# EAGLE library part PSOC_4M_68QFN (library atmega328pb_tqfn)
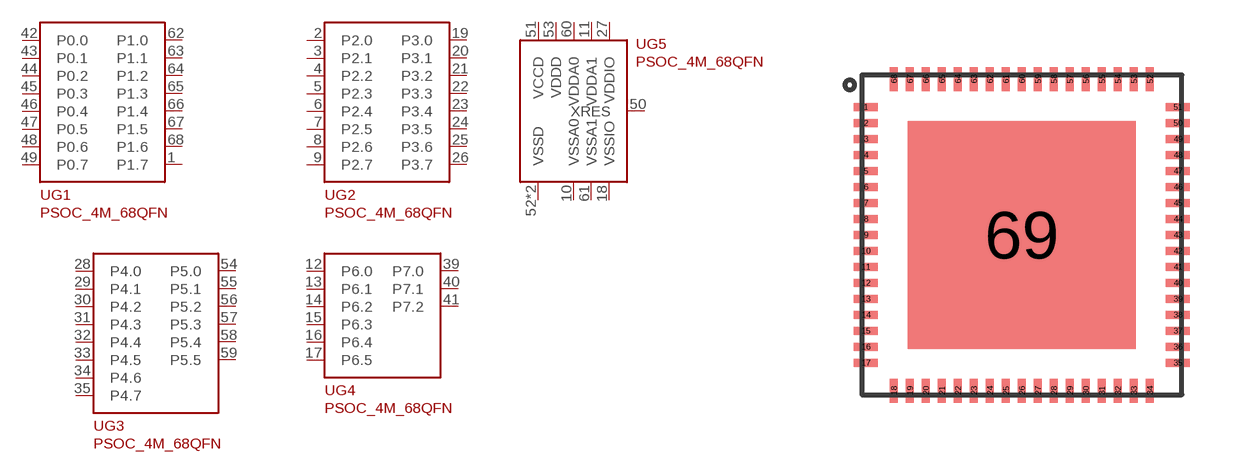
[diagram p140: symbol with the pads of QFN-68; footprint QFN-68]

Designator prefix U; gates G1=CY8C42M-68QFN_P0_P1 G2=CY8C42M-68QFN_P2_P3 G3=CY8C42M-68QFN_P4_P5 G4=CY8C42M-68QFN_P6_P7 G5=CY8C42M-68QFN_POWER

## PSOC_4M_68QFN (PROD_ID: IC-13259; VALUE: CY8C4247LTI)  [QFN-68]
1  G1:P1.7
2  G2:P2.0
3  G2:P2.1
4  G2:P2.2
5  G2:P2.3
6  G2:P2.4
7  G2:P2.5
8  G2:P2.6
9  G2:P2.7
10  G5:VSSA0
11  G5:VDDA1
12  G4:P6.0
13  G4:P6.1
14  G4:P6.2
15  G4:P6.3
16  G4:P6.4
17  G4:P6.5
18  G5:VSSIO
19  G2:P3.0
20  G2:P3.1
21  G2:P3.2
22  G2:P3.3
23  G2:P3.4
24  G2:P3.5
25  G2:P3.6
26  G2:P3.7
27  G5:VDDIO
28  G3:P4.0
29  G3:P4.1
30  G3:P4.2
31  G3:P4.3
32  G3:P4.4
33  G3:P4.5
34  G3:P4.6
35  G3:P4.7
39  G4:P7.0
40  G4:P7.1
41  G4:P7.2
42  G1:P0.0
43  G1:P0.1
44  G1:P0.2
45  G1:P0.3
46  G1:P0.4
47  G1:P0.5
48  G1:P0.6
49  G1:P0.7
50  G5:XRES
51  G5:VCCD
52  G5:VSSD
53  G5:VDDD
54  G3:P5.0
55  G3:P5.1
56  G3:P5.2
57  G3:P5.3
58  G3:P5.4
59  G3:P5.5
60  G5:VDDA0
61  G5:VSSA1
62  G1:P1.0
63  G1:P1.1
64  G1:P1.2
65  G1:P1.3
66  G1:P1.4
67  G1:P1.5
68  G1:P1.6
69  G5:VSSD

## Footprint QFN-68 (pad centres in mm)
smd 0.6 x 0.2: 1 -3.9,3.2; 2 -3.9,2.8; 3 -3.9,2.4; 4 -3.9,2; 5 -3.9,1.6; 6 -3.9,1.2; 7 -3.9,0.8; 8 -3.9,0.4; 9 -3.9,0; 10 -3.9,-0.4; 11 -3.9,-0.8; 12 -3.9,-1.2; 13 -3.9,-1.6; 14 -3.9,-2; 15 -3.9,-2.4; 16 -3.9,-2.8; 17 -3.9,-3.2; 35 3.9,-3.2; 36 3.9,-2.8; 37 3.9,-2.4; 38 3.9,-2; 39 3.9,-1.6; 40 3.9,-1.2; 41 3.9,-0.8; 42 3.9,-0.4; 43 3.9,0; 44 3.9,0.4; 45 3.9,0.8; 46 3.9,1.2; 47 3.9,1.6; 48 3.9,2; 49 3.9,2.4; 50 3.9,2.8; 51 3.9,3.2
smd 0.2 x 0.6: 18 -3.2,-3.9; 19 -2.8,-3.9; 20 -2.4,-3.9; 21 -2,-3.9; 22 -1.6,-3.9; 23 -1.2,-3.9; 24 -0.8,-3.9; 25 -0.4,-3.9; 26 0,-3.9; 27 0.4,-3.9; 28 0.8,-3.9; 29 1.2,-3.9; 30 1.6,-3.9; 31 2,-3.9; 32 2.4,-3.9; 33 2.8,-3.9; 34 3.2,-3.9; 52 3.2,3.9; 53 2.8,3.9; 54 2.4,3.9; 55 2,3.9; 56 1.6,3.9; 57 1.2,3.9; 58 0.8,3.9; 59 0.4,3.9; 60 0,3.9; 61 -0.4,3.9; 62 -0.8,3.9; 63 -1.2,3.9; 64 -1.6,3.9; 65 -2,3.9; 66 -2.4,3.9; 67 -2.8,3.9; 68 -3.2,3.9
smd 5.7 x 5.7: 69 0,0